# Altium schematic symbol library TVR.SchLib: 6 symbols
Pins are listed as number, name and electrical type; pins without a type are passive.

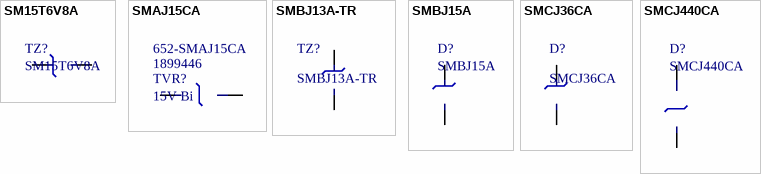
[diagram p0: symbols SM15T6V8A to SMCJ440CA]

## SM15T6V8A
designator TZ?
1500W 6.8V 5% Uni; Supplier 1: Octopart; Supplier 2: Octopart; Supplier 3: Mouser; Supplier Part Number 1: Farnell - 2252401; Supplier Part Number 2: RS Components - 4861281; Supplier Part Number 3: 78-SM15T6V8A-M357T
footprint DO-214AB
pins: 1, 2

## SMAJ15CA
designator TVR?, comment 15V Bi  Supplier Part Number 1: 1899446  Supplier Part Number 2: 652-SMAJ15CA
TVS Diode, SMAJ1 Series, Bidirectional, 15 V, 24.4 V, DO-214AC; Supplier 1: Farnell; Supplier 2: Mouser
footprint DO-214AC (TVR  DO-214AC)
pins: 1, 2

## SMBJ13A-TR
designator TZ?
Supplier 1: Farnell; Supplier Part Number 1: 9886095
footprint SODFL535X265-2N (SODFL, 2-Leads, Body 3.63x5.35mm, IPC Medium Density)
pins: 1, 2

## SMBJ15A
designator D?
15V TVR; Supplier 1: Mouser; Supplier Part Number 1: 494-MSMBJ15AE3
footprint SODFL535X265-2N (SODFL, 2-Leads, Body 3.63x5.35mm, IPC Medium Density)
pins: 1, 2

## SMCJ36CA
designator D?
36V, Bidirectional, TVR; Supplier 1: Farnell; Supplier Part Number 1: 1017862
footprint DO-214AB
pins: 1, 2

## SMCJ440CA
designator D?
Bidirectional, 440V; Supplier 1: Mouser; Supplier 2: Octopart; Supplier Part Number 1: 576-SMCJ440CA; Supplier Part Number 2: Farnell - 2295712
footprint DO-214AB
pins: 1, 2